# Altium schematic symbol library SRF4532TA-900Y.SchLib: 1 symbol
Pins are listed as number, name and electrical type; pins without a type are passive.

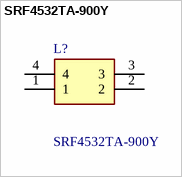
[diagram p0: symbol SRF4532TA-900Y]

## SRF4532TA-900Y
designator L?
350 nH 2 Line Common Mode Choke Surface Mount 90 Ohms 4A DCR 50mOhm; Manufacturer_Name: Bourns; Geometry.Height: 3mm; Mouser Part Number: 652-SRF4532TA-900Y; Mouser Price/Stock: https://www.mouser.co.uk/ProductDetail/Bourns/SRF4532TA-900Y?qs=jRuttqqUwMSnFOlNFDkBhg%3D%3D; Manufacturer_Part_Number: SRF4532TA-900Y; Datasheet Link: https://www.bourns.com/docs/Product-Datasheets/SRF4532TA.pdf
footprint SRF4532TA900Y
pins: 1, 2, 3, 4